# Altium footprint library Allen Bradley.PcbLib: 2 footprints
Each footprint in its own frame and in the unit in brackets; x right, y up, seen from the top. Pads: shape width x height; smd on the part's side, far side on the other; paste and mask are expansions set on the pad; w line width, h text height; cw(c..) or ccw(c..) is an arc to the next point about the centre after c.
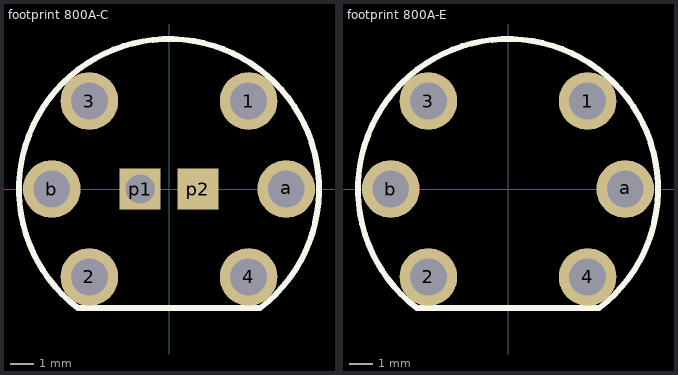
[diagram p0: the footprints below, top view; thin cyan lines are the x and y axes]

## footprint 800A-C [mm]
pads (8):
  round 2.5 hole 1.6: 1(3.45,3.81) 2(-3.45,-3.81) 3(-3.45,3.81) 4(3.45,-3.81) a(5.08,0) b(-5.08,0)
  rect 1.778x1.778 hole 1.27: p1(-1.25,0)
  rect 1.778x1.778 all layers, no hole: p2(1.25,0)
Top Overlay:
  lines w0.254: -3.956,-5.158 cw(c0,0) 3.998,-5.125 ; -3.95,-5.15 3.95,-5.15

## footprint 800A-E [mm]
pads (6):
  round 2.5 hole 1.6: 1(3.45,3.81) 2(-3.45,-3.81) 3(-3.45,3.81) 4(3.45,-3.81) a(5.08,0) b(-5.08,0)
Top Overlay:
  lines w0.254: -3.956,-5.158 cw(c0,0) 3.998,-5.125 ; -3.95,-5.15 3.95,-5.15